# Altium integrated library TI Microcontroller MSP430 16-bit Ultra-Low Power.IntLib: 1463 symbols (part 112 of 130)
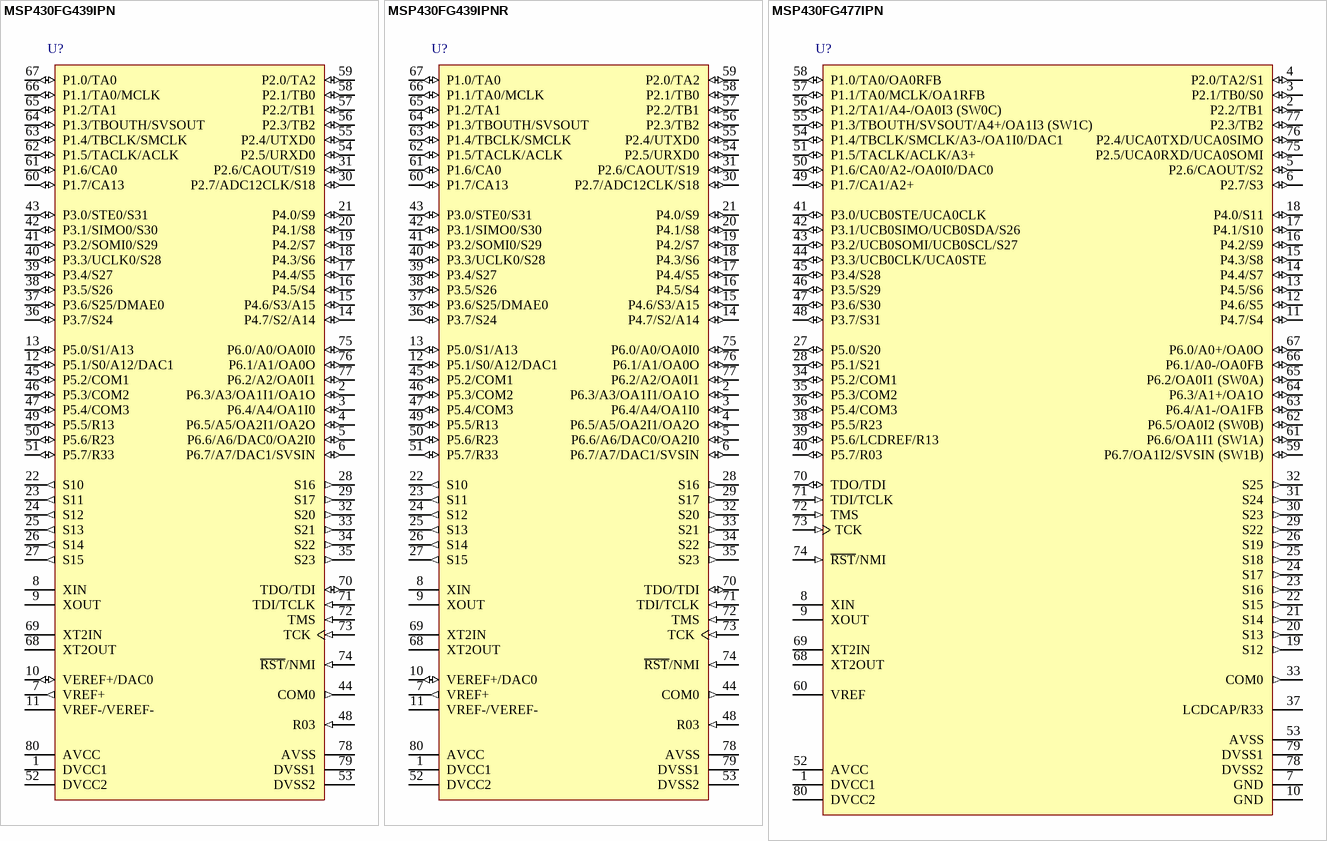
[diagram p391: symbols MSP430FG439IPN to MSP430FG477IPN]

## MSP430FG439IPNR
designator U?
8 MHz Mixed Signal Microcontroller with 60 KB Flash, 2048 B SRAM and 48 GPIOs, -40 to 85 degC, 80-pin QFP (PN), Green (RoHS & no Sb/Br); Manufacturer: Texas Instruments; PartNumber: MSP430FG439IPNR; ADC: 12-bit SAR; Brown Out Reset: Yes; DAC: 2; DMA: 3; Flash(KB): 60; Frequency(MHz): 8; GPIO: 48; LCD Segments: 128; SRAM(B): 2048; SubFamily: 4 Series with LCD; USART: 1; DatasheetVersion: SLAS380C; PackageReference: PN80; PackageDescription: 80-Pin Plastic Quad Flat Pack, Body 12 x 12 mm, Pitch 0.5 mm; Supplier 1: Digi-Key; Supplier Part Number 1: 296-17013-ND; Supplier 2: Farnell; Supplier Part Number 2: 1555272; Supplier 3: Newark; Supplier Part Number 3: 05J2133; Supplier 4: Mouser; Supplier Part Number 4: 595-430FG439IPN; Comparators: Yes; Eco-Plan: Green (RoHS & no Sb/Br); SVS: Yes; Temp Sensor: Yes; Timers - 16-bit: 2; Watchdog: Yes; Mounting Technology: Surface Mount; Code_JEDEC: MS-018; ComponentLink1Description: Manufacturer URL; ComponentLink1URL: http://www.ti.com/; ComponentLink2Description: Datasheet; ComponentLink2URL: http://www.ti.com/general/docs/lit/getliterature.tsp?genericPartNumber=MSP430FG439&fileType=pdf; ComponentLink3Description: Package Specification; ComponentLink3URL: http://www.ti.com/lit/ml/mtqf010a/mtqf010a.pdf
footprint TI-PN80_N (QFP, 80-Leads, Body 12x12mm, Pitch 0.5mm, IPC Medium Density)
pins: 1 DVCC1 (power) "Digital supply voltage, positive terminal.", 2 P6.3/A3/OA1I1/OA1O (io), 3 P6.4/A4/OA1I0 (io), 4 P6.5/A5/OA2I1/OA2O (io), 5 P6.6/A6/DAC0/OA2I0 (io), 6 P6.7/A7/DAC1/SVSIN (io), 7 VREF+ (out) "Positive output terminal of the reference voltage in the ADC", 8 XIN "Input terminal of crystal oscillator XT1", 9 XOUT "Output terminal of crystal oscillator XT1", 10 VEREF+/DAC0 (io), 11 VREF-/VEREF-, 12 P5.1/S0/A12/DAC1 (io), 13 P5.0/S1/A13 (io), 14 P4.7/S2/A14 (io), 15 P4.6/S3/A15 (io), 16 P4.5/S4 (io), 17 P4.4/S5 (io), 18 P4.3/S6 (io), 19 P4.2/S7 (io), 20 P4.1/S8 (io), 21 P4.0/S9 (io), 22 S10 (out) "LCD segment output 10", 23 S11 (out) "LCD segment output 11", 24 S12 (out) "LCD segment output 12", 25 S13 (out) "LCD segment output 13", 26 S14 (out) "LCD segment output 14", 27 S15 (out) "LCD segment output 15", 28 S16 (out) "LCD segment output 16", 29 S17 (out) "LCD segment output 17", 30 P2.7/ADC12CLK/S18 (io), 31 P2.6/CAOUT/S19 (io), 32 S20 (out) "LCD segment output 20", 33 S21 (out) "LCD segment output 21", 34 S22 (out) "LCD segment output 22", 35 S23 (out) "LCD segment output 23", 36 P3.7/S24 (io), 37 P3.6/S25/DMAE0 (io), 38 P3.5/S26 (io), 39 P3.4/S27 (io), 40 P3.3/UCLK0/S28 (io), 41 P3.2/SOMI0/S29 (io), 42 P3.1/SIMO0/S30 (io), 43 P3.0/STE0/S31 (io), 44 COM0 (out) "Common output, COM0-3 are used for LCD backplanes.", 45 P5.2/COM1 (io), 46 P5.3/COM2 (io), 47 P5.4/COM3 (io), 48 R03 (in) "Input port of fourth positive (lowest) analog LCD level (V5)", 49 P5.5/R13 (io), 50 P5.6/R23 (io), 51 P5.7/R33 (io), 52 DVCC2 (power) "Digital supply voltage, positive terminal.", 53 DVSS2 (power) "Digital supply voltage, negative terminal.", 54 P2.5/URXD0 (io), 55 P2.4/UTXD0 (io), 56 P2.3/TB2 (io), 57 P2.2/TB1 (io), 58 P2.1/TB0 (io), 59 P2.0/TA2 (io), 60 P1.7/CA13 (io), 61 P1.6/CA0 (io), 62 P1.5/TACLK/ACLK (io), 63 P1.4/TBCLK/SMCLK (io), 64 P1.3/TBOUTH/SVSOUT (io), 65 P1.2/TA1 (io), 66 P1.1/TA0/MCLK (io), 67 P1.0/TA0 (io), 68 XT2OUT "Output terminal of crystal oscillator XT2", 69 XT2IN "Input port for crystal oscillator XT2. Only standard crystals can be connected.", 70 TDO/TDI (io), 71 TDI/TCLK (in), 72 TMS (in) "Test mode select. TMS is used as an input port for device programming and test.", 73 TCK (in) "Test clock. TCK is the clock input port for device programming and test.", 74 ~{RST}/NMI (in), 75 P6.0/A0/OA0I0 (io), 76 P6.1/A1/OA0O (io), 77 P6.2/A2/OA0I1 (io), 78 AVSS (power) "Analog supply voltage, negative terminal. Supplies SVS, brownout, oscillator, comparator_A, port 1,and LCD resistive divider circuitry.", 79 DVSS1 (power) "Digital supply voltage, negative terminal", 80 AVCC (power) "Analog supply voltage, positive terminal. Supplies SVS, brownout, oscillator, comparator_A, port 1,and LCD resistive divider circuitry;must not power up prior toDVCC1/DVCC2."

## MSP430FG477IPN
designator U?
8 MHz Mixed Signal Microcontroller with 32 KB Flash, 2048 B SRAM and 48 GPIOs, -40 to 85 degC, 80-pin QFP (PN), Green (RoHS & no Sb/Br); Manufacturer: Texas Instruments; PartNumber: MSP430FG477IPN; ADC: 16-bit Sigma Delta; Brown Out Reset: Yes; Flash(KB): 32; Frequency(MHz): 8; GPIO: 48; LCD Segments: 128; SRAM(B): 2048; SubFamily: 4 Series with LCD; Timers - 16-bit: 2; USCI_A (UART/LIN/IrDA/SPI): 1; DatasheetVersion: SLAS580D; PackageReference: PN80; PackageDescription: 80-Pin Plastic Quad Flat Pack, Body 12 x 12 mm, Pitch 0.5 mm; Supplier 1: Digi-Key; Supplier Part Number 1: MSP430FG4619IZQWT-ND; Supplier 2: Farnell; Supplier Part Number 2: 1555279; Supplier 3: Newark; Supplier Part Number 3: 61M7857; Supplier 4: Mouser; Supplier Part Number 4: 595-SP430FG4619IZQWT; Comparators: Yes; Eco-Plan: Green (RoHS & no Sb/Br); SVS: Yes; Temp Sensor: Yes; USCI_B (I2C & SPI): 1; Watchdog: Yes; Mounting Technology: Surface Mount; Code_JEDEC: MS-018; ComponentLink1Description: Manufacturer URL; ComponentLink1URL: http://www.ti.com/; ComponentLink2Description: Datasheet; ComponentLink2URL: http://www.ti.com/general/docs/lit/getliterature.tsp?genericPartNumber=MSP430FG477&fileType=pdf; ComponentLink3Description: Package Specification; ComponentLink3URL: http://www.ti.com/lit/ml/mtqf010a/mtqf010a.pdf
footprint TI-PN80_N (QFP, 80-Leads, Body 12x12mm, Pitch 0.5mm, IPC Medium Density)
pins: 1 DVCC1 (power) "Digital supply voltage, positive terminal. Supplies all digital parts.", 2 P2.2/TB1 (io), 3 P2.1/TB0/S0 (io), 4 P2.0/TA2/S1 (io), 5 P2.6/CAOUT/S2 (io), 6 P2.7/S3 (io), 7 GND (power) "Ground. It is used to shield the oscillator.", 8 XIN "Input port for crystal oscillator XT1. Standard or watch crystals can be connected.", 9 XOUT "Output port for crystal oscillator XT1. Standard or watch crystals can be connected.", 10 GND (power) "Ground. It is used to shield the oscillator.", 11 P4.7/S4 (io), 12 P4.6/S5 (io), 13 P4.5/S6 (io), 14 P4.4/S7 (io), 15 P4.3/S8 (io), 16 P4.2/S9 (io), 17 P4.1/S10 (io), 18 P4.0/S11 (io), 19 S12 (out) "LCD segment output 12", 20 S13 (out) "LCD segment output 13", 21 S14 (out) "LCD segment output 14", 22 S15 (out) "LCD segment output 15", 23 S16 (out) "LCD segment output 16", 24 S17 (out) "LCD segment output 17", 25 S18 (out) "LCD segment output 18", 26 S19 (out) "LCD segment output 19", 27 P5.0/S20 (io), 28 P5.1/S21 (io), 29 S22 (out) "LCD segment output 22", 30 S23 (out) "LCD segment output 23", 31 S24 (out) "LCD segment output 24", 32 S25 (out) "LCD segment output 25", 33 COM0 (out) "Common output, COM0--3 are used for LCD backplanes", 34 P5.2/COM1 (io), 35 P5.3/COM2 (io), 36 P5.4/COM3 (io), 37 LCDCAP/R33, 38 P5.5/R23 (io), 39 P5.6/LCDREF/R13 (io), 40 P5.7/R03 (io), 41 P3.0/UCB0STE/UCA0CLK (io), 42 P3.1/UCB0SIMO/UCB0SDA/S26 (io), 43 P3.2/UCB0SOMI/UCB0SCL/S27 (io), 44 P3.3/UCB0CLK/UCA0STE (io), 45 P3.4/S28 (io), 46 P3.5/S29 (io), 47 P3.6/S30 (io), 48 P3.7/S31 (io), 49 P1.7/CA1/A2+ (io), 50 P1.6/CA0/A2-/OA0I0/DAC0 (io), 51 P1.5/TACLK/ACLK/A3+ (io), 52 AVCC (power) "Analog supply voltage, positive terminal.", 53 AVSS (power) "Analog supply voltage, negative terminal.", 54 P1.4/TBCLK/SMCLK/A3-/OA1I0/DAC1 (io), 55 P1.3/TBOUTH/SVSOUT/A4+/OA1I3 (SW1C) (io), 56 P1.2/TA1/A4-/OA0I3 (SW0C) (io), 57 P1.1/TA0/MCLK/OA1RFB (io), 58 P1.0/TA0/OA0RFB (io), 59 P6.7/OA1I2/SVSIN (SW1B) (io), 60 VREF "Input for an external reference voltage/internal reference voltage output", 61 P6.6/OA1I1 (SW1A) (io), 62 P6.5/OA0I2 (SW0B) (io), 63 P6.4/A1-/OA1FB (io), 64 P6.3/A1+/OA1O (io), 65 P6.2/OA0I1 (SW0A) (io), 66 P6.1/A0-/OA0FB (io), 67 P6.0/A0+/OA0O (io), 68 XT2OUT "Output terminal of crystal oscillator XT2", 69 XT2IN "Input port for crystal oscillator XT2", 70 TDO/TDI (io), 71 TDI/TCLK (in), 72 TMS (in) "Test mode select. TMS is used as an input port for device programming and test.", 73 TCK (in) "Test clock (JTAG). TCK is the clock input port for device programming test and bootstrap loader start.", 74 ~{RST}/NMI (in), 75 P2.5/UCA0RXD/UCA0SOMI (io), 76 P2.4/UCA0TXD/UCA0SIMO (io), 77 P2.3/TB2 (io), 78 DVSS2 (power) "Digital supply voltage, negative terminal. Supplies all digital parts.", 79 DVSS1 (power) "Digital supply voltage, negative terminal. Supplies all digital parts.", 80 DVCC2 (power) "Digital supply voltage, positive terminal. Supplies all digital parts."

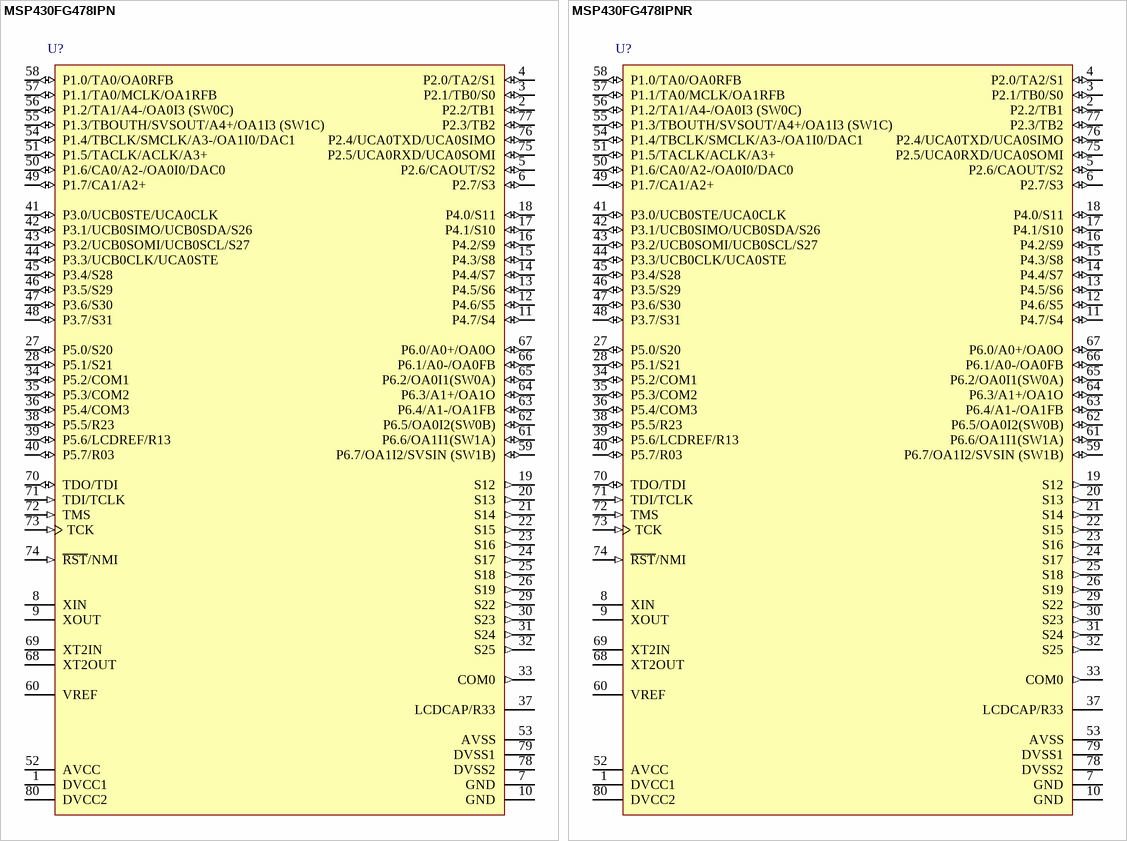
[diagram p188: symbols MSP430FG478IPN to MSP430FG478IPNR]

## MSP430FG478IPN
designator U?
8 MHz Mixed Signal Microcontroller with 48 KB Flash, 2048 B SRAM and 48 GPIOs, -40 to 85 degC, 80-pin QFP (PN), Green (RoHS & no Sb/Br); Manufacturer: Texas Instruments; PartNumber: MSP430FG478IPN; ADC: 16-bit Sigma Delta; Brown Out Reset: Yes; Flash(KB): 48; Frequency(MHz): 8; LCD Segments: 128; SRAM(B): 2048; SubFamily: 4 Series with LCD; Timers - 16-bit: 2; USCI_A (UART/LIN/IrDA/SPI): 1; DatasheetVersion: SLAS580D; PackageReference: PN80; PackageDescription: 80-Pin Plastic Quad Flat Pack, Body 12 x 12 mm, Pitch 0.5 mm; Supplier 1: Digi-Key; Supplier Part Number 1: MSP430FG477IPN-ND; Supplier 2: Newark; Supplier Part Number 2: 24R9824; Supplier 3: Mouser; Supplier Part Number 3: 595-MSP430FG477IPN; Comparators: Yes; Eco-Plan: Green (RoHS & no Sb/Br); GPIO: 48; SVS: Yes; Temp Sensor: Yes; USCI_B (I2C & SPI): 1; Watchdog: Yes; Mounting Technology: Surface Mount; Code_JEDEC: MS-018; ComponentLink1Description: Manufacturer URL; ComponentLink1URL: http://www.ti.com/; ComponentLink2Description: Datasheet; ComponentLink2URL: http://www.ti.com/general/docs/lit/getliterature.tsp?genericPartNumber=MSP430FG478&fileType=pdf; ComponentLink3Description: Package Specification; ComponentLink3URL: http://www.ti.com/lit/ml/mtqf010a/mtqf010a.pdf
footprint TI-PN80_N (QFP, 80-Leads, Body 12x12mm, Pitch 0.5mm, IPC Medium Density)
pins: 1 DVCC1 (power) "Digital supply voltage, positive terminal. Supplies all digital parts.", 2 P2.2/TB1 (io), 3 P2.1/TB0/S0 (io), 4 P2.0/TA2/S1 (io), 5 P2.6/CAOUT/S2 (io), 6 P2.7/S3 (io), 7 GND (power) "Ground. It is used to shield the oscillator.", 8 XIN "Input port for crystal oscillator XT1. Standard or watch crystals can be connected", 9 XOUT "Output port for crystal oscillator XT1. Standard or watch crystals can be connected.", 10 GND (power) "Ground. It is used to shield the oscillator. See Note NO TAG.", 11 P4.7/S4 (io), 12 P4.6/S5 (io), 13 P4.5/S6 (io), 14 P4.4/S7 (io), 15 P4.3/S8 (io), 16 P4.2/S9 (io), 17 P4.1/S10 (io), 18 P4.0/S11 (io), 19 S12 (out) "LCD segment output 12", 20 S13 (out) "LCD segment output 13", 21 S14 (out) "LCD segment output 14", 22 S15 (out) "LCD segment output 15", 23 S16 (out) "LCD segment output 16", 24 S17 (out) "LCD segment output 17", 25 S18 (out) "LCD segment output 18", 26 S19 (out) "LCD segment output 19", 27 P5.0/S20 (io), 28 P5.1/S21 (io), 29 S22 (out) "LCD segment output 22", 30 S23 (out) "LCD segment output 23", 31 S24 (out) "LCD segment output 24", 32 S25 (out) "LCD segment output 25", 33 COM0 (out) "Common output, COM0--3 are used for LCD backplanes", 34 P5.2/COM1 (io), 35 P5.3/COM2 (io), 36 P5.4/COM3 (io), 37 LCDCAP/R33, 38 P5.5/R23 (io), 39 P5.6/LCDREF/R13 (io), 40 P5.7/R03 (io), 41 P3.0/UCB0STE/UCA0CLK (io), 42 P3.1/UCB0SIMO/UCB0SDA/S26 (io), 43 P3.2/UCB0SOMI/UCB0SCL/S27 (io), 44 P3.3/UCB0CLK/UCA0STE (io), 45 P3.4/S28 (io), 46 P3.5/S29 (io), 47 P3.6/S30 (io), 48 P3.7/S31 (io), 49 P1.7/CA1/A2+ (io), 50 P1.6/CA0/A2-/OA0I0/DAC0 (io), 51 P1.5/TACLK/ACLK/A3+ (io), 52 AVCC (power) "Analog supply voltage, positive terminal.", 53 AVSS (power) "Analog supply voltage, negative terminal.", 54 P1.4/TBCLK/SMCLK/A3-/OA1I0/DAC1 (io), 55 P1.3/TBOUTH/SVSOUT/A4+/OA1I3 (SW1C) (io), 56 P1.2/TA1/A4-/OA0I3 (SW0C) (io), 57 P1.1/TA0/MCLK/OA1RFB (io), 58 P1.0/TA0/OA0RFB (io), 59 P6.7/OA1I2/SVSIN (SW1B) (io), 60 VREF "Input for an external reference voltage/internal reference voltage output", 61 P6.6/OA1I1(SW1A) (io), 62 P6.5/OA0I2(SW0B) (io), 63 P6.4/A1-/OA1FB (io), 64 P6.3/A1+/OA1O (io), 65 P6.2/OA0I1(SW0A) (io), 66 P6.1/A0-/OA0FB (io), 67 P6.0/A0+/OA0O (io), 68 XT2OUT "Output terminal of crystal oscillator XT2", 69 XT2IN "Input port for crystal oscillator XT2", 70 TDO/TDI (io), 71 TDI/TCLK (in), 72 TMS (in) "Test mode select. TMS is used as an input port for device programming and test.", 73 TCK (in) "Test clock (JTAG). TCK is the clock input port for device programming test and bootstrap loader start.", 74 ~{RST}/NMI (in) "Reset input, nonmaskable interrupt input port, or bootstrap loader start (in flash devices).", 75 P2.5/UCA0RXD/UCA0SOMI (io), 76 P2.4/UCA0TXD/UCA0SIMO (io), 77 P2.3/TB2 (io), 78 DVSS2 (power) "Digital supply voltage, negative terminal. Supplies all digital parts.", 79 DVSS1 (power) "Digital supply voltage, negative terminal. Supplies all digital parts.", 80 DVCC2 (power) "Digital supply voltage, positive terminal. Supplies all digital parts."